# Altium footprint library 2.54-PLCC插槽封装.PcbLib: 6 footprints
Each footprint in its own frame and in the unit in brackets; x right, y up, seen from the top. Pads: shape width x height; smd on the part's side, far side on the other; paste and mask are expansions set on the pad; w line width, h text height; cw(c..) or ccw(c..) is an arc to the next point about the centre after c.
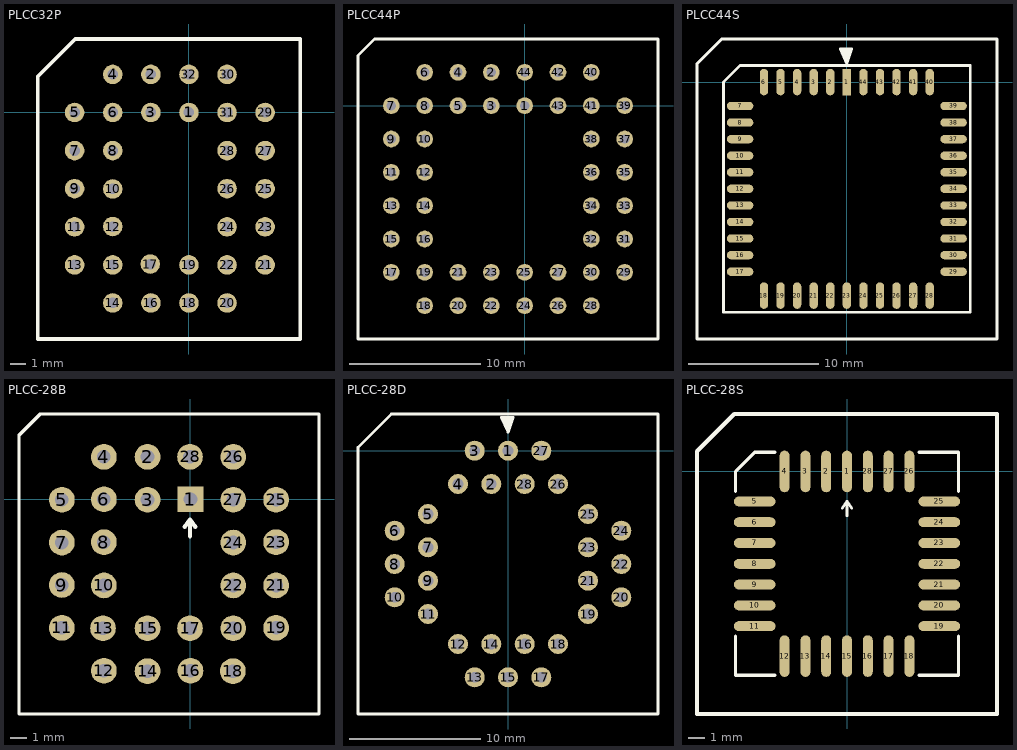
[diagram p0: the footprints below, top view; thin cyan lines are the x and y axes]

## PLCC32P [mm] "淘宝ID:黄晶宝石"
pads (32):
  round 1.3 hole 0.7: 1(0,0) 2(-2.54,2.54) 3(-2.54,0) 4(-5.08,2.54) 5(-7.62,0) 6(-5.08,0) 7(-7.62,-2.54) 8(-5.08,-2.54) 9(-7.62,-5.08) 10(-5.08,-5.1) 11(-7.62,-7.62) 12(-5.08,-7.6) 13(-7.62,-10.16) 14(-5.08,-12.7) 15(-5.08,-10.16) 16(-2.54,-12.7) 17(-2.58,-10.1) 18(0,-12.7) 19(0,-10.16) 20(2.54,-12.7) 21(5.08,-10.16) 22(2.54,-10.16) 23(5.08,-7.62) 24(2.54,-7.62) 25(5.08,-5.08) 26(2.54,-5.08) 27(5.08,-2.54) 28(2.54,-2.54) 29(5.08,0) 30(2.54,2.54) 31(2.54,0) 32(0,2.54)
Top Overlay:
  lines w0.254: -10.08,-15.1 -10.08,-0.1 -10.08,2.4 -7.58,4.9 -5.08,4.9 7.42,4.9 7.42,-15.1 -10.08,-15.1

## PLCC44P [mil]
pads (44):
  round 50 hole 28: 1(0,0) 2(-100,100) 3(-100,0) 4(-200,100) 5(-200,0) 6(-300,100) 7(-400,0) 8(-300,0) 9(-400,-100) 10(-300,-100) 11(-400,-200) 12(-300,-200) 13(-400,-300) 14(-300,-300) 15(-400,-400) 16(-300,-400) 17(-400,-500) 18(-300,-600) 19(-300,-500) 20(-200,-600) 21(-200,-500) 22(-100,-600) 23(-100,-500) 24(0,-600) 25(0,-500) 26(100,-600) 27(100,-500) 28(200,-600) 29(300,-500) 30(200,-500) 31(300,-400) 32(200,-400) 33(300,-300) 34(200,-300) 35(300,-200) 36(200,-200) 37(300,-100) 38(200,-100) 39(300,0) 40(200,100) 41(200,0) 42(100,100) 43(100,0) 44(0,100)
Top Overlay:
  lines w8: -500,-700 -500,150 -450,200 400,200 400,-700 -500,-700

## PLCC44S [mil]
pads (44):
  rect 25x80 smd: 1(0,0)
  oval 25x80 smd: 2(-50,0) 3(-100,0) 4(-150,0) 5(-200,0) 6(-250,0) 18(-250,-644) 19(-200,-644) 20(-150,-644) 21(-100,-644) 22(-50,-644) 23(0,-644) 24(50,-644) 25(100,-644) 26(150,-644) 27(200,-644) 28(250,-644) 40(250,0) 41(200,0) 42(150,0) 43(100,0) 44(50,0)
  oval 80x25 smd: 7(-322,-72) 8(-322,-122) 9(-322,-172) 10(-322,-222) 11(-322,-272) 12(-322,-322) 13(-322,-372) 14(-322,-422) 15(-322,-472) 16(-322,-522) 17(-322,-572) 29(322,-572) 30(322,-522) 31(322,-472) 32(322,-422) 33(322,-372) 34(322,-322) 35(322,-272) 36(322,-222) 37(322,-172) 38(322,-122) 39(322,-72)
Top Overlay:
  lines w8: -15,100 0,70 ; -10,100 0,80 5,100 ; 0,100 0,70 ; 10,100 0,70 ; -372,-694 372,-694 372,50 -322,50 -372,0 -372,-694 ; -20,100 0,55 15,100 -20,100
  lines w10: -452,-775 -452,55 -377,130 453,130 453,-775 -452,-775

## PLCC-28B [mil]
pads (28):
  rect 60x60 hole 32: 1(0,0)
  round 60 hole 32: 2(-100,99) 3(-100,-1) 4(-202,99) 5(-300,-1) 6(-202,0) 7(-300,-101) 8(-202,-100) 9(-300,-200) 10(-202,-201) 11(-300,-300) 12(-202,-400) 13(-204,-301) 14(-100,-401) 15(-100,-301) 16(0,-400) 17(-1,-301) 18(99,-401) 19(200,-300) 20(100,-301) 21(200,-201) 22(100,-201) 23(200,-100) 24(100,-101) 25(200,-1) 26(100,99) 27(100,-1) 28(-1,99)
Top Overlay:
  lines w7.87: -400,-501 300,-501 300,199 -350,199 -400,149 -400,-501
  lines w10: -13,-64 -1,-48 ; -1,-86 -1,-48 ; 11,-64 -1,-48

## PLCC-28D [mil]
pads (28):
  round 60 hole 32: 1(0,0) 2(-50,-100) 3(-100,0) 4(-150,-100) 5(-240,-190) 6(-340,-240) 7(-240,-290) 8(-340,-340) 9(-240,-390) 10(-340,-440) 11(-240,-490) 12(-150,-580) 13(-100,-680) 14(-50,-580) 15(0,-680) 16(50,-580) 17(100,-680) 18(150,-580) 19(240,-490) 20(340,-440) 21(240,-390) 22(340,-340) 23(240,-290) 24(340,-240) 25(240,-190) 26(150,-100) 27(100,0) 28(50,-100)
Top Overlay:
  lines w8: -15,100 0,70 ; -10,100 0,80 5,100 ; 0,100 0,70 ; 10,100 0,70 ; -450,-790 -450,10 -350,110 450,110 450,-790 -450,-790 ; -20,100 15,100 0,55 -20,100

## PLCC-28S [mm] "淘宝ID:黄晶宝石"
pads (28):
  oval 0.6x2.5 smd: 1(0,0) 2(-1.25,0) 3(-2.5,0) 4(-3.75,0) 12(-3.75,-11.1) 13(-2.5,-11.1) 14(-1.25,-11.1) 15(0,-11.1) 16(1.25,-11.1) 17(2.5,-11.1) 18(3.75,-11.1) 26(3.75,0) 27(2.5,0) 28(1.25,0)
  oval 2.5x0.6 smd: 5(-5.55,-1.8) 6(-5.55,-3.05) 7(-5.55,-4.3) 8(-5.55,-5.55) 9(-5.55,-6.8) 10(-5.55,-8.05) 11(-5.55,-9.3) 19(5.55,-9.3) 20(5.55,-8.05) 21(5.55,-6.8) 22(5.55,-5.55) 23(5.55,-4.3) 24(5.55,-3.05) 25(5.55,-1.8)
Top Overlay:
  lines w0.154: -0.279,-2.21 0,-1.778 ; 0,-2.667 0,-1.778 ; 0.279,-2.21 0,-1.778
  lines w0.2: -6.7,-9.9 -6.7,-12.25 -4.35,-12.25 ; -6.7,-1.2 -6.7,0 -5.55,1.15 -4.35,1.15 ; 4.35,-12.25 6.7,-12.25 6.7,-9.9 ; 4.35,1.15 6.7,1.15 6.7,-1.2
  lines w0.254: -9.017,-14.58 -9.017,1.219 -6.782,3.454 9.017,3.454 9.017,-14.58 -9.017,-14.58